# Altium schematic symbol library Inductor.SchLib: 2 symbols
Pins are listed as number, name and electrical type; pins without a type are passive.

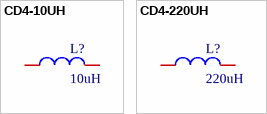
[diagram p0: symbols CD4-10UH to CD4-220UH]

## CD4-10UH
designator L?, comment 10uH
1.15A 10uH Unshielded Inductor ±20% SMD,4x4.5mm Power Inductors ROHS; Manufacturer: ZE; Mfr. Part #: CD43-100M; Key Attributes: FIXED IND 10uH 1.15A 182mΩ SMD,4x4.5mm; DC Resistance(DCR): 182mΩ; LCSC Part #: C18734467; Package: SMD,4x4.5mm; Link: https://www.lcsc.com/product-detail/C18734467.html?s_z=n_CD43%252010uH; Tolerance: ±20%; Current Rating: 1.15A; Inductance: 10uH
footprint CD43
pins: 1, 2

## CD4-220UH
designator L?, comment 220uH
360mA 220uH ±20% SMD,4.5x4x3.2mm Power Inductors ROHS; Manufacturer: YJYCOIN; Mfr. Part #: CD43YP0403-221M; Key Attributes: FIXED IND 220uH 360mA 3.4Ω SMD,4.5x4x3.2mm; DC Resistance(DCR): 3.4Ω; LCSC Part #: C492283; Package: SMD,4.5x4x3.2mm; Link: https://www.lcsc.com/product-detail/C492283.html?s_z=n_220uH%2520cd43; Tolerance: ±20%; Current Rating: 360mA; Inductance: 220uH
footprint CD43
pins: 1, 2